# Altium footprint library Hirose.PcbLib: 9 footprints
Each footprint in its own frame and in the unit in brackets; x right, y up, seen from the top. Pads: shape width x height; smd on the part's side, far side on the other; paste and mask are expansions set on the pad; w line width, h text height; cw(c..) or ccw(c..) is an arc to the next point about the centre after c.
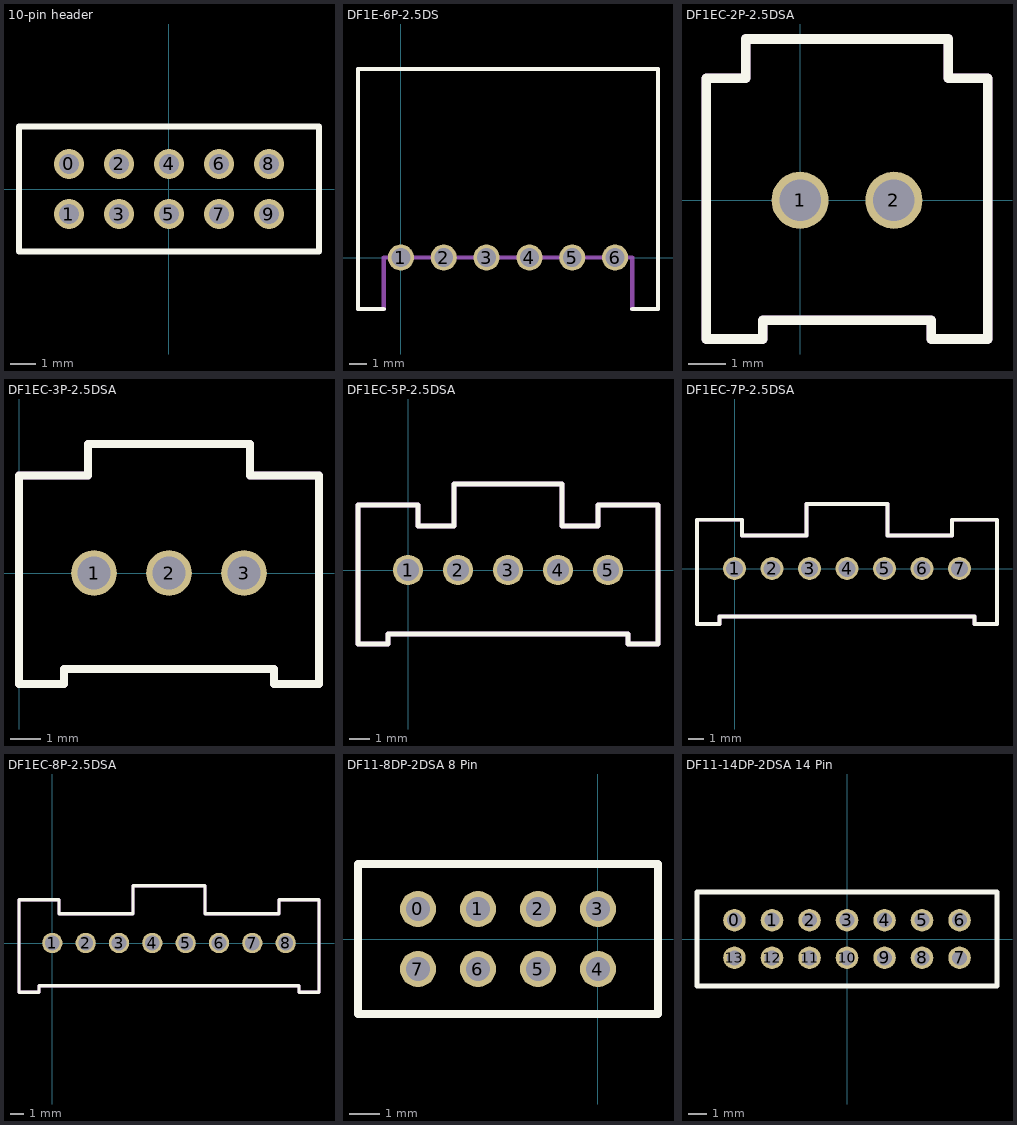
[diagram p0: the footprints below, top view; thin cyan lines are the x and y axes]

## 10-pin header [mm] "for a 10-pin connector"
pads (10):
  round 1.2 hole 0.8: 0(-4,1) 1(-4,-1) 2(-2,1) 3(-2,-1) 4(0,1) 5(0,-1) 6(2,1) 7(2,-1) 8(4,1) 9(4,-1)
Top Overlay:
  lines w0.254: -6,-2.5 -6,2.5 6,2.5 6,-2.5 -6,-2.5

## DF1E-6P-2.5DS [mil]
pads (6):
  round 60 hole 43.31: 1(0,0) 2(98.43,0) 3(196.85,0) 4(295.28,0) 5(393.7,0) 6(492.13,0)
Top Overlay:
  lines w10: -39.37,-118.11 -98.43,-118.11 -98.43,433.07 590.55,433.07 590.55,-118.11 531.5,-118.11
Mechanical 1:
  lines w10: -98.43,-118.11 -39.37,-118.11 -39.37,0 531.5,0 531.5,-118.11 551.18,-118.11 590.55,-118.11 590.55,433.07 -98.43,433.07 -98.43,0 -98.43,-118.11

## DF1EC-2P-2.5DSA [mil]
height 425.2
pads (2):
  round 60 hole 43.31: 1(0,0) 2(98.43,0)
Top Overlay:
  lines w10: -98.43,-145.67 -98.43,127.95 -57.09,127.95 -57.09,169.29 155.51,169.29 155.51,127.95 196.85,127.95 196.85,-145.67 137.8,-145.67 137.8,-125.98 -39.37,-125.98 -39.37,-145.67 -98.43,-145.67
Mechanical 1:
  lines w10: -98.43,-145.67 -98.43,127.95 -57.09,127.95 -57.09,169.29 155.51,169.29 155.51,127.95 196.85,127.95 196.85,-145.67 137.8,-145.67 137.8,-125.98 -39.37,-125.98 -39.37,-145.67 -98.43,-145.67
3D body: height 425.2, standoff 0, extent -98.41,-145.65 196.83,169.27

## DF1EC-3P-2.5DSA [mm] "3-pin DF1E connector straight"
height 10.8
pads (3):
  round 1.524 hole 1.1: 1(2.5,0) 2(5,0) 3(7.5,0)
Top Overlay:
  lines w0.254: 0,-3.7 0,3.25 2.3,3.25 2.3,4.3 7.7,4.3 7.7,3.25 10,3.25 10,-3.7 8.5,-3.7 8.5,-3.2 1.5,-3.2 1.5,-3.7 0,-3.7
Mechanical 1:
  lines w0.254: 0,-3.7 0,3.25 2.3,3.25 2.3,4.3 7.7,4.3 7.7,3.25 10,3.25 10,-3.7 8.5,-3.7 8.5,-3.2 1.5,-3.2 1.5,-3.7 0,-3.7
3D body: height 10.8, standoff 0, extent 0.001,-3.699 9.999,4.299

## DF1EC-5P-2.5DSA [mil] "5-pin DF1E connector straight"
height 425.2
pads (5):
  round 60 hole 43.31: 1(0,0) 2(98.43,0) 3(196.85,0) 4(295.28,0) 5(393.7,0)
Top Overlay:
  lines w10: -98.43,-145.67 -98.43,127.95 19.68,127.95 19.68,86.61 90.55,86.61 90.55,169.29 303.15,169.29 303.15,86.61 374.02,86.61 374.02,127.95 492.13,127.95 492.13,-145.67 433.07,-145.67 433.07,-125.98 -39.37,-125.98 -39.37,-145.67 -98.43,-145.67
Mechanical 1:
  lines w10: -98.43,-145.67 -98.43,127.95 19.68,127.95 19.68,86.61 90.55,86.61 90.55,169.29 303.15,169.29 303.15,86.61 374.02,86.61 374.02,127.95 492.13,127.95 492.13,-145.67 433.07,-145.67 433.07,-125.98 -39.37,-125.98 -39.37,-145.67 -98.43,-145.67
3D body: height 425.2, standoff 0, extent -98.41,-145.65 492.11,169.27

## DF1EC-7P-2.5DSA [mil] "7-pin DF1E connector straight"
height 425.2
pads (7):
  round 60 hole 43.31: 1(0,0) 2(98.43,0) 3(196.85,0) 4(295.28,0) 5(393.7,0) 6(492.13,0) 7(590.55,0)
Top Overlay:
  lines w10: -98.43,-145.67 -39.37,-145.67 -39.37,-125.98 629.92,-125.98 629.92,-145.67 688.98,-145.67 688.98,127.95 570.87,127.95 570.87,86.61 401.57,86.61 401.57,169.29 188.98,169.29 188.98,86.61 19.68,86.61 19.68,127.95 -98.43,127.95 -98.43,-145.67
Mechanical 1:
  lines w10: -98.43,-145.67 -39.37,-145.67 -39.37,-125.98 629.92,-125.98 629.92,-145.67 688.98,-145.67 688.98,127.95 570.87,127.95 570.87,86.61 401.57,86.61 401.57,169.29 188.98,169.29 188.98,86.61 19.68,86.61 19.68,127.95 -98.43,127.95 -98.43,-145.67
3D body: height 425.2, standoff 0, extent -98.41,-145.65 688.96,169.27

## DF1EC-8P-2.5DSA [mil] "8-pin DF1E connector straight"
height 425.2
pads (8):
  round 60 hole 43.31: 1(0,0) 2(98.43,0) 3(196.85,0) 4(295.28,0) 5(393.7,0) 6(492.13,0) 7(590.55,0) 8(688.98,0)
Top Overlay:
  lines w10: -98.43,-145.67 -39.37,-145.67 -39.37,-125.98 728.35,-125.98 728.35,-145.67 787.4,-145.67 787.4,127.95 669.29,127.95 669.29,86.61 450.79,86.61 450.79,169.29 238.19,169.29 238.19,86.61 19.68,86.61 19.68,127.95 -98.43,127.95 -98.43,-145.67
Mechanical 1:
  lines w10: -98.43,-145.67 -39.37,-145.67 -39.37,-125.98 728.35,-125.98 728.35,-145.67 787.4,-145.67 787.4,127.95 669.29,127.95 669.29,86.61 450.79,86.61 450.79,169.29 238.19,169.29 238.19,86.61 19.68,86.61 19.68,127.95 -98.43,127.95 -98.43,-145.67
3D body: height 425.2, standoff 0, extent -98.41,-145.65 787.38,169.27

## DF11-8DP-2DSA 8 Pin [mm] "for Hirose 8pin DF11-8DP-2DSA Connector"
pads (8):
  round 1.2 hole 0.8: 0(-6,1) 1(-4,1) 2(-2,1) 3(0,1) 4(0,-1) 5(-2,-1) 6(-4,-1) 7(-6,-1)
Top Overlay:
  lines w0.254: -8,-2.5 -8,2.5 2,2.5 2,-2.5 -8,-2.5

## DF11-14DP-2DSA 14 Pin [mm] "for Hirose 14 pin DF11-14DP-2DSA Connector"
pads (14):
  round 1.2 hole 0.8: 0(-6,1) 1(-4,1) 2(-2,1) 3(0,1) 4(2,1) 5(4,1) 6(6,1) 7(6,-1) 8(4,-1) 9(2,-1) 10(0,-1) 11(-2,-1) 12(-4,-1) 13(-6,-1)
Top Overlay:
  lines w0.254: -8,-2.5 8,-2.5 8,2.5 -8,2.5 -8,-2.5